# EAGLE library part 750845240 (library Wurth Electronics Midcom Inc V1-0)
Package Style: EE30 THT Mounting: THT Pins: 12 pins Bobbin: 070-5313 Windings Primary: Aux: Secondary: Best pinouts for production vary per application. Please contact Wurth Electronics Midcom, Inc. for assistance with your custom design. Datasheet: 750845240 <http://www.we-online.com/web/en/index.php/show/media/passive_components_-_custom_magnetics/pdf_doc_files/spec_sheets/7508/750845240.pdf> Website: Wurth Electronics Midcom <http://www.we-online.com/midcom> Contact us Wurth Electronics Midcom, Inc. 121 Airport Dr. Watertown, SD 57201 Phone: (605) 886-4385 Fax: (605) 886-4486 E-Mail: midcom@we-online.com
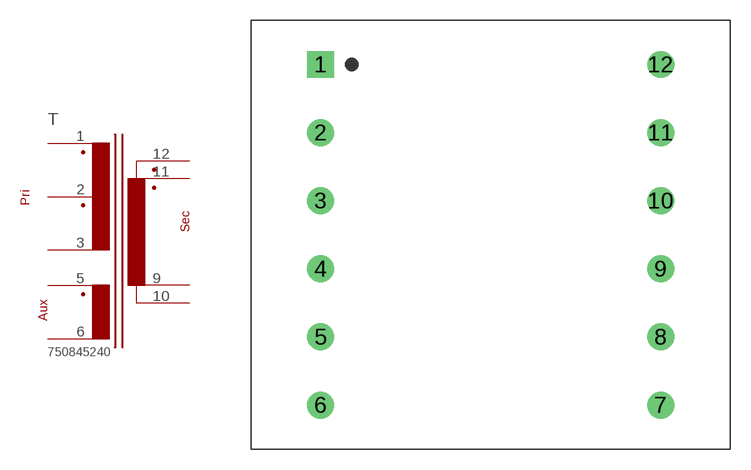
[diagram p91: symbol with the pads of 750845240; footprint 750845240]

Designator prefix T

## 750845240  [750845240]
1  1  pas
2  2  pas
3  3  pas
5  4  pas
6  5  pas
9  9  pas
10  7  pas
11  8  pas
12  6  pas

## Footprint 750845240 (pad centres in mm)
Package Style: Non Standard EE30 THT Mounting: THT Pins: 12
drill 1.321 square: 1 -12.497,12.509
drill 1.321 round: 2 -12.497,7.506; 3 -12.497,2.502; 4 -12.497,-2.502; 5 -12.497,-7.506; 6 -12.497,-12.509; 7 12.497,-12.509; 8 12.497,-7.506; 9 12.497,-2.502; 10 12.497,2.502; 11 12.497,7.506; 12 12.497,12.509